# EAGLE library part DRDNB21D-7 (library DRDNB21D-7)
Diodes Inc, DRDNB21D-7, Dual NPN Digital Transistor, 100 mA 50 V, 6-Pin SOT-363 Source: Datasheet <https://www.diodes.com//assets/Datasheets/ds30756.pdf>
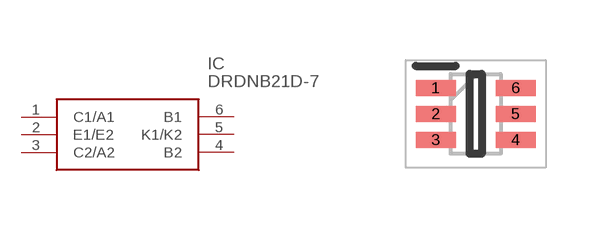
[diagram p0: symbol with the pads of SOT65P210X110-6N; footprint SOT65P210X110-6N]

Designator prefix IC

## DRDNB21D-7 (Description: Diodes Inc, DRDNB21D-7, Dual NPN Digital Transistor, 100 mA 50 V, 6-Pin SOT-363; Height: 1.1mm; Manufacturer_Name: Diodes Incorporated; Manufacturer_Part_Number: DRDNB21D-7; Mouser_Part_Number: 621-DRDNB21D-7; Mouser_Price-Stock: https://www.mouser.co.uk/ProductDetail/Diodes-Incorporated/DRDNB21D-7?qs=mQbszxtPdlPuLejzjzn%2Fng%3D%3D)  [SOT65P210X110-6N]
1  C1/A1
2  E1/E2
3  C2/A2
4  B2
5  K1/K2
6  B1

## Footprint SOT65P210X110-6N (pad centres in mm)
SOT-363
smd 1 x 0.4: 1 -1,0.65; 2 -1,0; 3 -1,-0.65; 4 1,-0.65; 5 1,0; 6 1,0.65